# EAGLE library part PWR_REG_BUCK_SCT2450 (library !GPLIB_ACTIVE)
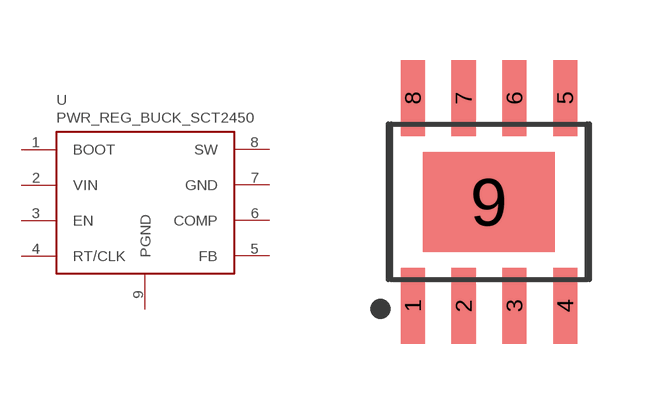
[diagram p48: symbol with the pads of SOIC-8P_EP; footprint SOIC-8P_EP]

Designator prefix U

## PWR_REG_BUCK_SCT2450_SCT2450STER  [SOIC-8P_EP]
1  BOOT  in
2  VIN  pwr
3  EN  in
4  RT/CLK  in
5  FB  in
6  COMP  out
7  GND  pwr
8  SW  out
9  PGND  pwr

## PWR_REG_BUCK_SCT2450_SCT2450QSTER  [SOIC-8P_EP]
Pads as for SOIC-8P_EP

## Footprint SOIC-8P_EP (pad centres in mm)
8-SOIC, 1.27 mm pitch, 6.00 mm span, 4.90 X 3.90 X 1.75 mm body 8-pin SOIC package with 1.27 mm pitch, 6.00 mm span with body size 4.90 X 3.90 X 1.75 mm
smd 0.602 x 1.904: 1 -1.905,-2.6; 2 -0.635,-2.6; 3 0.635,-2.6; 4 1.905,-2.6; 5 1.905,2.6; 6 0.635,2.6; 7 -0.635,2.6; 8 -1.905,2.6
smd 3.3 x 2.5: 9 0,0